# EAGLE library part MICROSD-EDGE (library C3-Connector)
MicroSD PCB Card Edge
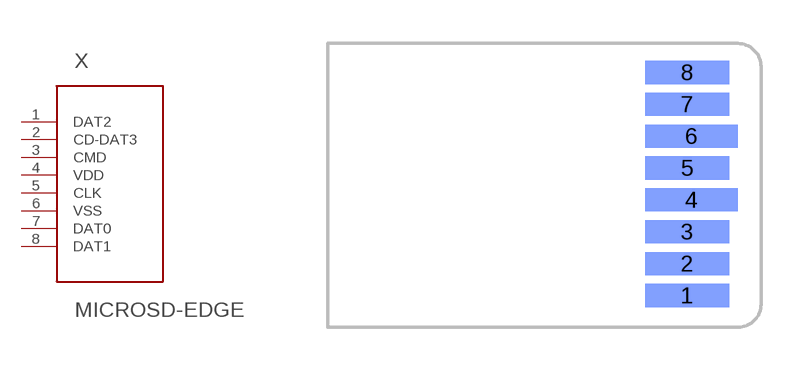
[diagram p13: symbol with the pads of MICROSD-EDGE; footprint MICROSD-EDGE]

Designator prefix X

## MICROSD-EDGE  [MICROSD-EDGE]
1  DAT2
2  CD-DAT3
3  CMD
4  VDD  pwr
5  CLK  in
6  VSS  sup
7  DAT0
8  DAT1

## Footprint MICROSD-EDGE (pad centres in mm)
MicroSD Card Edge Note: Bottom Side Facing Up
smd 2.9 x 0.8 bottom: 1 0,-7.7; 2 0,-6.6; 3 0,-5.5; 5 0,-3.3; 7 0,-1.1; 8 0,0
smd 3.2 x 0.8 bottom: 4 0.15,-4.4; 6 0.15,-2.2